# Altium footprint library PcbLib1.PcbLib: 11 footprints
Each footprint in its own frame and in the unit in brackets; x right, y up, seen from the top. Pads: shape width x height; smd on the part's side, far side on the other; paste and mask are expansions set on the pad; w line width, h text height; cw(c..) or ccw(c..) is an arc to the next point about the centre after c.
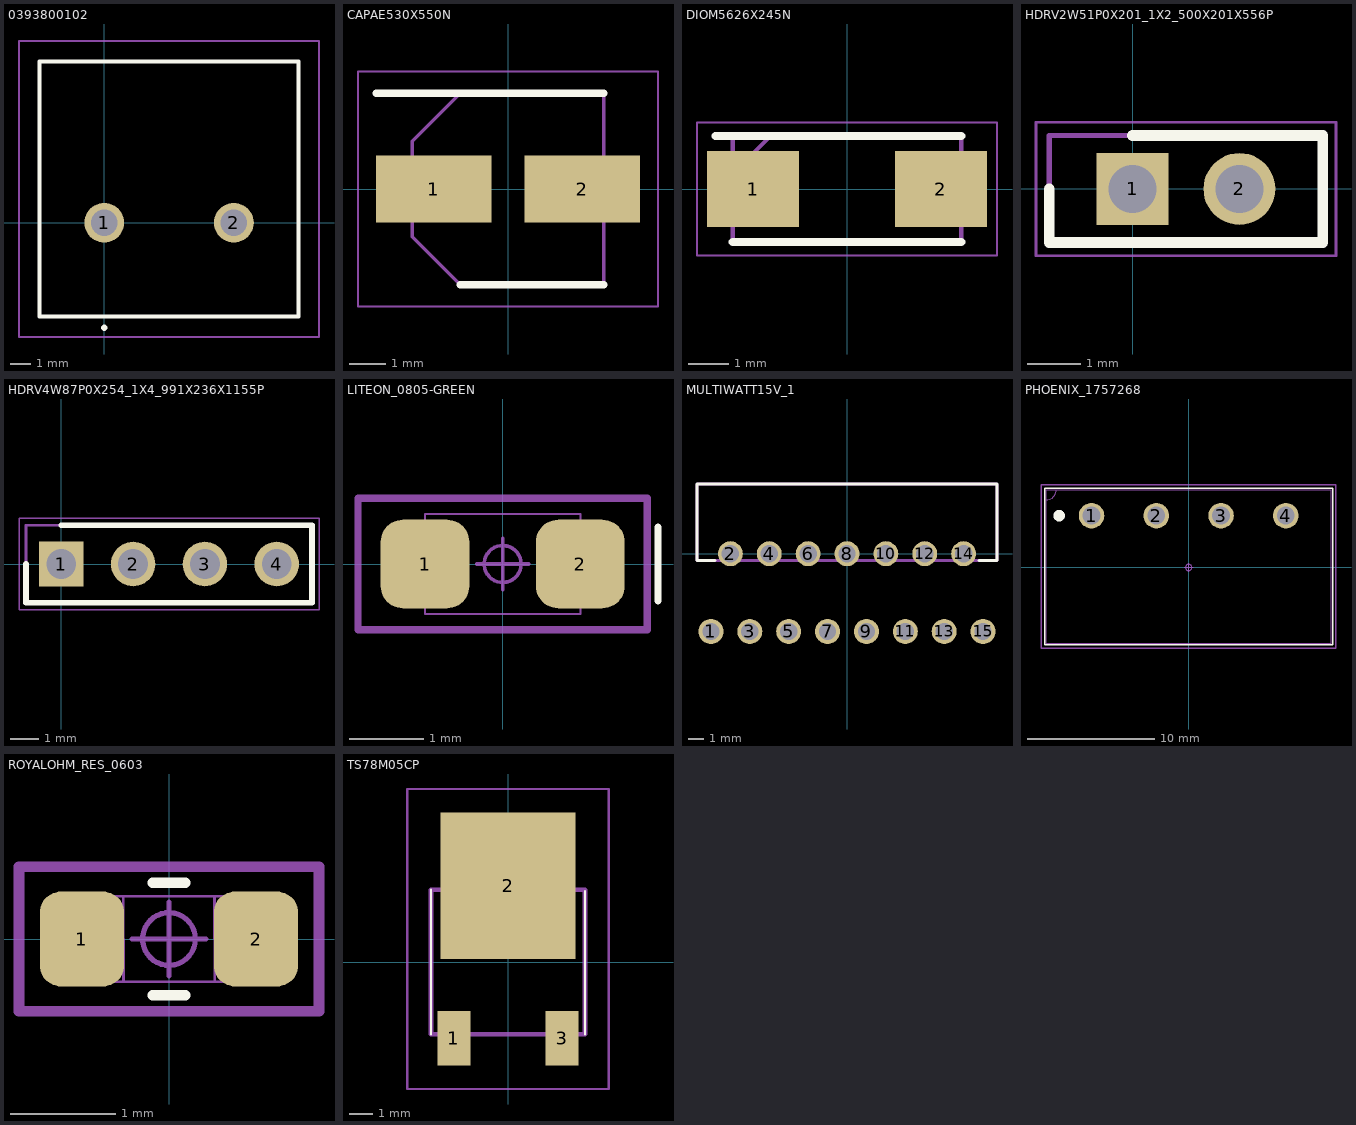
[diagram p0: the footprints below, top view; thin cyan lines are the x and y axes]

## 0393800102 [mm]
pads (2):
  round 1.95 hole 1.3: 1(0,0) 2(6.35,0)
Top Overlay:
  lines w0.2: 0,-5.2 cw(c0,-5.15) 0,-5.1 ; 0,-5.2 ccw(c0,-5.15) 0,-5.1 ; 0,-5.2 cw(c0,-5.15) 0,-5.1 ; -3.18,-4.6 -3.18,7.9 9.52,7.9 9.52,-4.6 -3.18,-4.6
Mechanical 13:
  lines w0.1: -3.18,-4.6 -3.18,7.9 9.52,7.9 9.52,-4.6 -3.18,-4.6
Mechanical 15:
  lines w0.1: -4.18,-5.6 -4.18,8.9 10.52,8.9 10.52,-5.6 -4.18,-5.6
3D body "0393800102.stp": height 21.49, standoff -5.51, extent -3.65,-4.581 9.66,7.916

## CAPAE530X550N [mm]
pads (2):
  rect 3.2x1.85 smd: 1(-2.05,0) 2(2.05,0)
Top Overlay:
  lines w0.2: -3.65,2.65 2.65,2.65 ; -1.325,-2.65 2.65,-2.65
Mechanical 13:
  lines w0.1: -2.65,-1.325 -2.65,1.325 -1.325,2.65 2.65,2.65 2.65,-2.65 -1.325,-2.65 -2.65,-1.325
Mechanical 15:
  lines w0.05: -4.15,-3.25 4.15,-3.25 4.15,3.25 -4.15,3.25 -4.15,-3.25
3D body "UWX0J470MCL1GB.stp": height 5.5, standoff 0, extent -2.95,-2.75 2.95,2.75

## DIOM5626X245N [mm]
pads (2):
  rect 2.25x1.85 smd: 1(-2.3,0) 2(2.3,0)
Top Overlay:
  lines w0.2: -3.225,1.3 2.8,1.3 ; -2.8,-1.3 2.8,-1.3
Mechanical 13:
  lines w0.1: -2.8,0.375 -1.875,1.3 ; -2.8,-1.3 2.8,-1.3 2.8,1.3 -2.8,1.3 -2.8,-1.3
Mechanical 15:
  lines w0.05: -3.675,-1.625 3.675,-1.625 3.675,1.625 -3.675,1.625 -3.675,-1.625
3D body "M7.stp": height 2.45, standoff 0, extent -2.8,-1.3 2.8,1.3

## HDRV2W51P0X201_1X2_500X201X556P [mm]
pads (2):
  rect 1.35x1.35 hole 0.9: 1(0,0)
  round 1.35 hole 0.9: 2(2.007,0)
Top Overlay:
  lines w0.2: -1.562,0 -1.562,-1.004 3.569,-1.004 3.569,1.003 0,1.003
Mechanical 13:
  lines w0.1: -1.562,-1.004 -1.562,1.003 3.569,1.003 3.569,-1.004 -1.562,-1.004
Mechanical 15:
  lines w0.05: -1.812,-1.254 -1.812,1.253 3.819,1.253 3.819,-1.254 -1.812,-1.254
3D body "26630201RP2.stp": height 5.56, standoff -3.25, extent -1.499,-1.004 3.505,1.004

## HDRV4W87P0X254_1X4_991X236X1155P [mm]
pads (4):
  rect 1.575x1.575 hole 1.05: 1(0,0)
  round 1.575 hole 1.05: 2(2.54,0) 3(5.08,0) 4(7.62,0)
Top Overlay:
  lines w0.2: -1.245,0 -1.245,-1.37 8.865,-1.37 8.865,1.37 0,1.37
Mechanical 13:
  lines w0.1: -1.245,-1.37 -1.245,1.37 8.865,1.37 8.865,-1.37 -1.245,-1.37
Mechanical 15:
  lines w0.05: -1.495,-1.62 -1.495,1.62 9.115,1.62 9.115,-1.62 -1.495,-1.62
3D body "0022032041.stp": height 10.66, standoff -3.56, extent -1.153,-1.191 8.753,1.171

## LITEON_0805-GREEN [mm]
pads (2):
  rrect50% 1.2x1.2 smd mask+0.04: 1(-1.05,0) 2(1.05,0)
Top Overlay:
  lines w0.1: 2.1,-0.5 2.1,0.5
Mechanical 13:
  lines w0.025: -1.05,-0.675 1.05,-0.675 1.05,0.675 -1.05,0.675 -1.05,-0.675
Mechanical 15:
  circle w0.05: c0,0 r0.25
  lines w0.05: -0.35,0 0.35,0 ; 0,-0.35 0,0.35
  lines w0.1: -1.956,-0.889 1.956,-0.889 1.956,0.889 -1.956,0.889 -1.956,-0.889
3D body "LED-0805-Green.step": height 1.1, standoff 0, extent -1.05,-0.675 1.05,0.675

## MULTIWATT15V_1 [mm]
pads (15):
  round 1.63 hole 1.13: 1(-8.89,-5.08) 2(-7.62,0) 3(-6.35,-5.08) 4(-5.08,0) 5(-3.81,-5.08) 6(-2.54,0) 7(-1.27,-5.08) 8(0,0) 9(1.27,-5.08) 10(2.54,0) 11(3.81,-5.08) 12(5.08,0) 13(6.35,-5.08) 14(7.62,0) 15(8.89,-5.08)
Top Overlay:
  lines w0.2: -8.638,-0.45 -9.8,-0.45 -9.8,4.55 9.8,4.55 9.8,-0.45 8.638,-0.45
Mechanical 13:
  lines w0.2: -9.8,-0.45 -9.8,4.55 9.8,4.55 9.8,-0.45 -9.8,-0.45
3D body "L298N.stp": height 21.75, standoff -3.35, extent -9.8,-5.172 9.8,3.92

## PCBComponent_1 [mm]

## PHOENIX_1757268 [mm]
pads (4):
  round 2 hole 1.4 mask+0: 1(-7.62,4.064) 2(-2.54,4.064) 3(2.54,4.064) 4(7.62,4.064)
Top Overlay:
  circle w0.5: c-10.16,4.064 r0.2
  lines w0.1: -11.303,-6.052 -11.303,6.223 11.303,6.223 11.303,-6.052 -11.303,-6.052
Mechanical 13:
  lines w0.025: -11.176,5.296 ccw(c-11.176,6.096) -10.376,6.096 ; -11.176,-5.925 11.176,-5.925 11.176,6.096 -11.176,6.096 -11.176,-5.925
Mechanical 15:
  circle w0.05: c0,0 r0.25
  lines w0.05: -0.35,0 0.35,0 ; 0,-0.35 0,0.35
  lines w0.1: -11.557,-6.35 -11.557,6.477 11.557,6.477 11.557,-6.35 -11.557,-6.35
3D body "pxc_1757268_06_MSTBA-2-5-4-G-5-08_3D.stp": height 8.7, standoff -3.4, extent -11.16,-5.906 11.16,6.096

## ROYALOHM_RES_0603 [mm]
pads (2):
  rrect50% 0.8x0.9 smd paste+0 mask+0.04: 1(-0.825,0) 2(0.825,0)
Top Overlay:
  lines w0.1: -0.152,-0.533 0.152,-0.533 ; -0.152,0.533 0.152,0.533
Mechanical 13:
  lines w0.025: -0.432,0.406 -0.432,-0.394 ; 0.432,0.394 0.432,-0.406 ; -0.813,-0.406 0.813,-0.406 0.813,0.406 -0.813,0.406 -0.813,-0.406
Mechanical 15:
  circle w0.05: c0,0 r0.25
  lines w0.05: -0.35,0 0.35,0 ; 0,-0.35 0,0.35
  lines w0.1: -1.422,-0.686 -1.422,0.686 1.422,0.686 1.422,-0.686 -1.422,-0.686
3D body "RES 0603.STEP": height 0.45, standoff 0, extent -0.8,-0.4 0.8,0.4

## TS78M05CP [mm]
pads (3):
  rect 1.4x2.29 smd: 1(-2.285,-3.217) 3(2.285,-3.217)
  rect 5.69x6.18 smd: 2(0,3.217)
Top Overlay:
  lines w0.1: -3.25,-3.05 -3.25,3.05 ; 3.25,-3.05 3.25,3
Mechanical 13:
  lines w0.2: -3.25,-3.05 3.25,-3.05 3.25,3.05 -3.25,3.05 -3.25,-3.05
Mechanical 15:
  lines w0.1: -4.25,-5.363 4.25,-5.363 4.25,7.308 -4.25,7.308 -4.25,-5.363
3D body "TS78M05CP.stp": height 2.38, standoff 0, extent -3.25,-3.98 3.25,5.92